# Altium schematic symbol library Res_Panasonic_ERJ-3EKF22R0V_eec.SchLib: 1 symbol
Pins are listed as number, name and electrical type; pins without a type are passive.

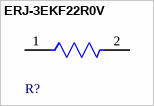
[diagram p0: symbol ERJ-3EKF22R0V]

## ERJ-3EKF22R0V
designator R?  (value not drawn)
pins: 1, 2